# Altium schematic symbol library GigabitTransformer_H6062NLT.SchLib: 1 symbol
Pins are listed as number, name and electrical type; pins without a type are passive.

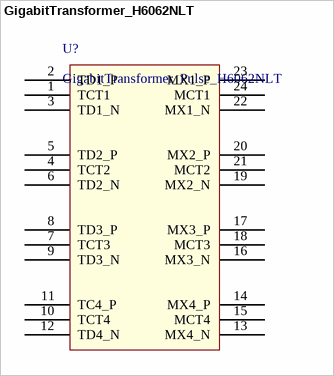
[diagram p0: symbol GigabitTransformer_H6062NLT]

## GigabitTransformer_H6062NLT
designator U?, comment GigabitTransformer_Pulse_H6062NLT
Magnetics, GigabitTransformer, H6062NLT, Pulse
pins: 1 TCT1, 2 TD1_P, 3 TD1_N, 4 TCT2, 5 TD2_P, 6 TD2_N, 7 TCT3, 8 TD3_P, 9 TD3_N, 10 TCT4, 11 TC4_P, 12 TD4_N, 13 MX4_N, 14 MX4_P, 15 MCT4, 16 MX3_N, 17 MX3_P, 18 MCT3, 19 MX2_N, 20 MX2_P, 21 MCT2, 22 MX1_N, 23 MX1_P, 24 MCT1